# EAGLE library part GROMBUS (library ads)
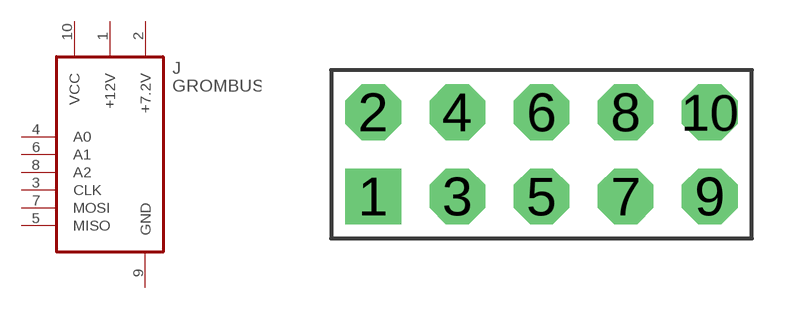
[diagram p20: symbol with the pads of CON10P2R; footprint CON10P2R]

Designator prefix J

## GROMBUS  [CON10P2R]
1  +12V  pwr
2  +7.2V  pwr
3  CLK
4  A0
5  MISO
6  A1
7  MOSI
8  A2
9  GND  pwr
10  VCC  pwr

## Footprint CON10P2R (pad centres in mm)
drill 0.889 pad 1.676 square: 1 -5.08,-1.27
drill 0.889 pad 1.676 octagon: 2 -5.08,1.27; 3 -2.54,-1.27; 4 -2.54,1.27; 5 0,-1.27; 6 0,1.27; 7 2.54,-1.27; 8 2.54,1.27; 9 5.08,-1.27; 10 5.08,1.27